# Altium footprint library Ceramic.PcbLib: 8 footprints
Each footprint in its own frame and in the unit in brackets; x right, y up, seen from the top. Pads: shape width x height; smd on the part's side, far side on the other; paste and mask are expansions set on the pad; w line width, h text height; cw(c..) or ccw(c..) is an arc to the next point about the centre after c.
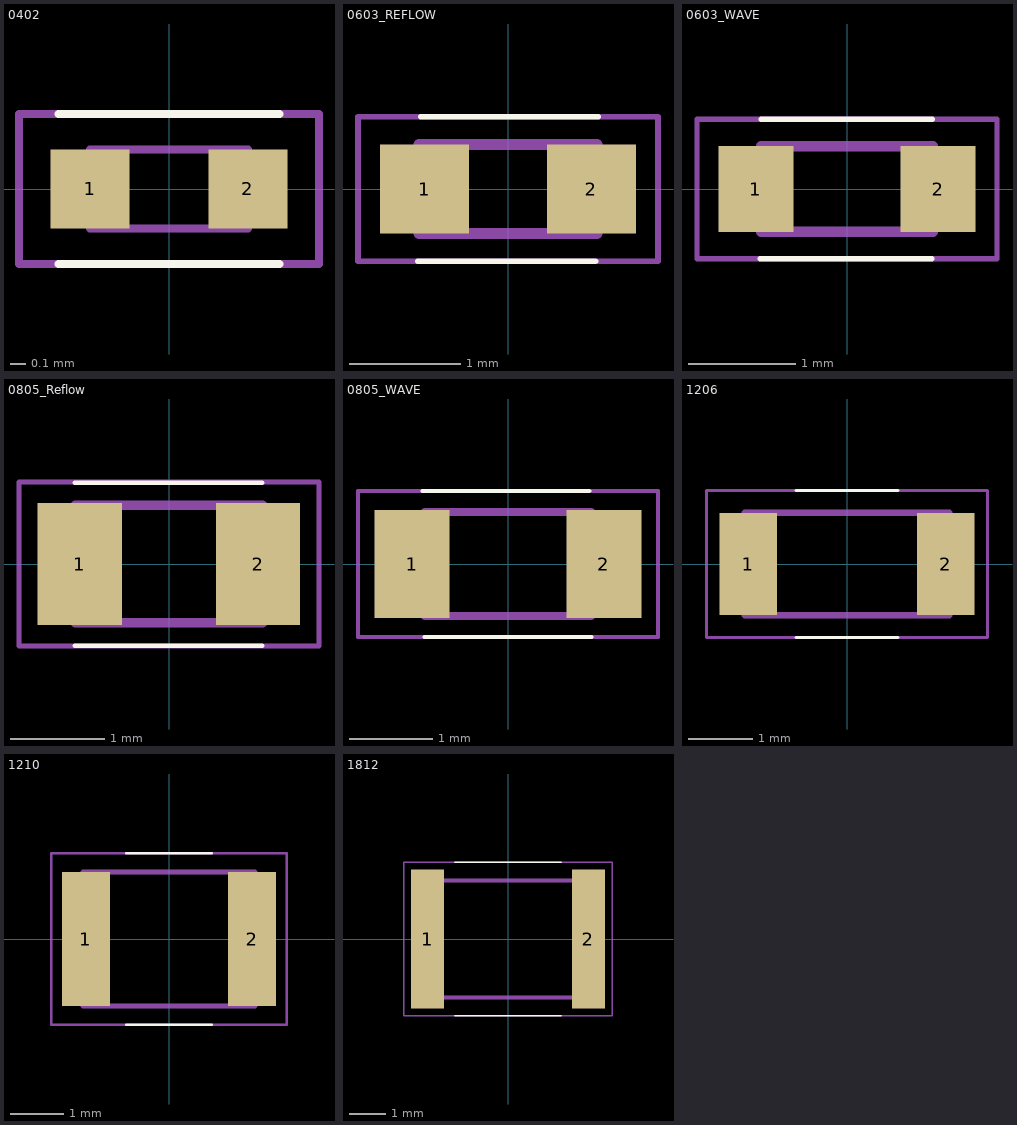
[diagram p0: the footprints below, top view; thin cyan lines are the x and y axes]

## 0402 [mm] "Ceramic Capacitors, body 1x0.5mm"
height 0.5
pads (2):
  rect 0.5x0.5 smd: 1(-0.5,0) 2(0.5,0)
Top Overlay:
  lines w0.05: -0.7,-0.475 0.7,-0.475 ; -0.7,0.475 0.7,0.475
M13 3D Top:
  lines w0.05: -0.5,-0.25 -0.5,0.25 0.5,0.25 0.5,-0.25 -0.5,-0.25
M15 Courtyard Top:
  lines w0.05: -0.95,-0.475 -0.95,0.475 0.95,0.475 0.95,-0.475 -0.95,-0.475
3D body "1x0.5x0.5x0.25.stp": height 0.5, standoff 0, extent -0.5,-0.25 0.5,0.25

## 0603_REFLOW [mm] "Ceramic Capacitors, body 1.6x0.8mm"
height 0.8
pads (2):
  rect 0.8x0.8 smd: 1(-0.75,0) 2(0.75,0)
Top Overlay:
  lines w0.05: -0.813,-0.65 0.787,-0.65 ; -0.787,0.65 0.813,0.65
M13 3D Top:
  lines w0.1: -0.8,-0.4 -0.8,0.4 0.8,0.4 0.8,-0.4 -0.8,-0.4
M15 Courtyard Top:
  lines w0.05: -1.35,-0.65 1.35,-0.65 1.35,0.65 -1.35,0.65 -1.35,-0.65
3D body "1.6x0.8x0.8x0.4.stp": height 0.8, standoff 0, extent -0.8,-0.4 0.8,0.4

## 0603_WAVE [mm] "Ceramic Capacitors, 0603, body 1.6x0.8mm"
height 0.8
pads (2):
  rect 0.7x0.8 smd: 1(-0.85,0) 2(0.85,0)
Top Overlay:
  lines w0.05: -0.809,-0.65 0.791,-0.65 ; -0.802,0.65 0.798,0.65
M13 3D Top:
  lines w0.1: -0.8,-0.4 0.8,-0.4 0.8,0.4 -0.8,0.4 -0.8,-0.4
M15 Courtyard Top:
  lines w0.05: -1.4,-0.65 -1.4,0.65 1.4,0.65 1.4,-0.65 -1.4,-0.65
3D body "1.6x0.8x0.8x0.4.stp": height 0.8, standoff 0, extent -0.8,-0.4 0.8,0.4

## 0805_Reflow [mm] "Ceramic Capacitors, body 2x1.25mm"
height 0.9
pads (2):
  rect 0.9x1.3 smd: 1(-0.95,0) 2(0.95,0)
Top Overlay:
  lines w0.05: -1.004,-0.873 0.996,-0.873 ; -1.004,0.867 0.996,0.867
M13 3D Top:
  lines w0.1: -1,-0.625 1,-0.625 1,0.625 -1,0.625 -1,-0.625
M15 Courtyard Top:
  lines w0.05: -1.6,-0.875 1.6,-0.875 1.6,0.875 -1.6,0.875 -1.6,-0.875
3D body "2x1.25x0.8x0.5.stp": height 0.8, standoff 0, extent -1,-0.625 1,0.625

## 0805_WAVE [mm] "Ceramic Capacitors, body 2x1.25mm"
height 0.9
pads (2):
  rect 0.9x1.3 smd: 1(-1.15,0) 2(1.15,0)
Top Overlay:
  lines w0.05: -1.025,0.875 0.975,0.875 ; -1,-0.875 1,-0.875
M13 3D Top:
  lines w0.1: -1,-0.625 1,-0.625 1,0.625 -1,0.625 -1,-0.625
M15 Courtyard Top:
  lines w0.05: -1.8,-0.875 -1.8,0.875 1.8,0.875 1.8,-0.875 -1.8,-0.875
3D body "2x1.25x0.8x0.5.stp": height 0.8, standoff 0, extent -1,-0.625 1,0.625

## 1206 [mm] "Ceramic Capacitors, body 3.2x1.6mm"
height 1.9
pads (2):
  rect 0.9x1.6 smd: 1(-1.55,0) 2(1.55,0)
Top Overlay:
  lines w0.05: -0.8,-1.15 0.8,-1.15 ; -0.8,1.15 0.8,1.15
M13 3D Top:
  lines w0.1: -1.6,-0.8 1.6,-0.8 1.6,0.8 -1.6,0.8 -1.6,-0.8
M15 Courtyard Top:
  lines w0.05: -2.2,-1.15 2.2,-1.15 2.2,1.15 -2.2,1.15 -2.2,-1.15
3D body "3.2x1.6x1.6x0.2.stp": height 1.6, standoff 0, extent -1.6,-0.8 1.6,0.8

## 1210 [mm] "Ceramic Capacitors, body 3.2x2.5mm"
height 2.2
pads (2):
  rect 0.9x2.5 smd: 1(-1.55,0) 2(1.55,0)
Top Overlay:
  lines w0.05: -0.8,-1.6 0.8,-1.6 ; -0.8,1.6 0.8,1.6
M13 3D Top:
  lines w0.1: -1.6,-1.25 1.6,-1.25 1.6,1.25 -1.6,1.25 -1.6,-1.25
M15 Courtyard Top:
  lines w0.05: -2.2,-1.6 -2.2,1.6 2.2,1.6 2.2,-1.6 -2.2,-1.6
3D body "3.2x2.5x2x0.75.stp": height 2, standoff 0, extent -1.6,-1.25 1.6,1.25

## 1812 [mm] "Ceramic Capacitors, body 4.5x3.2mm"
height 2.2
pads (2):
  rect 0.9x3.8 smd: 1(-2.2,0) 2(2.2,0)
Top Overlay:
  lines w0.05: -1.45,-2.1 1.45,-2.1 ; -1.45,2.1 1.45,2.1
M13 3D Top:
  lines w0.1: -2.25,-1.6 -2.25,1.6 2.25,1.6 2.25,-1.6 -2.25,-1.6
M15 Courtyard Top:
  lines w0.05: -2.85,-2.1 2.85,-2.1 2.85,2.1 -2.85,2.1 -2.85,-2.1
3D body "4.5x3.2x2x0.75.stp": height 2, standoff 0, extent -2.25,-1.6 2.25,1.6